# EAGLE library part ADS7846 (library BurrBrown_ADS7846)
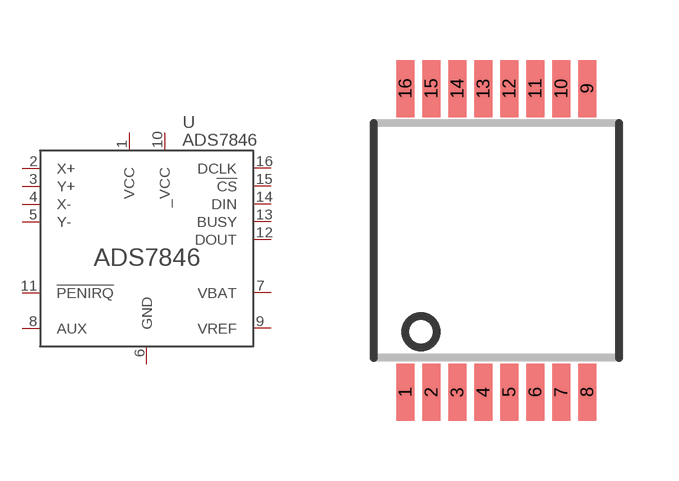
[diagram p0: symbol with the pads of SSOP16; footprint SSOP16]

Designator prefix -

## ADS7846  [SSOP16]
1  VCC
2  X+
3  Y+
4  X-
5  Y-
6  GND
7  VBAT
8  AUX
9  VREF
10  _VCC
11  !PENIRQ
12  DOUT
13  BUSY
14  DIN
15  !CS
16  DCLK

## Footprint SSOP16 (pad centres in mm)
smd 0.46 x 1.43: 1 -2.147,-3.89; 2 -1.498,-3.89; 3 -0.848,-3.89; 4 -0.198,-3.89; 5 0.453,-3.89; 6 1.103,-3.89; 7 1.752,-3.89; 8 2.402,-3.89; 9 2.402,3.7; 10 1.752,3.7; 11 1.103,3.7; 12 0.453,3.7; 13 -0.198,3.7; 14 -0.848,3.7; 15 -1.498,3.7; 16 -2.147,3.7